# EAGLE library part DSPIC33FJ128MC202-I/MM (library Microchip_By_element14_Batch_1)
16-bit Digital Signal Controllers
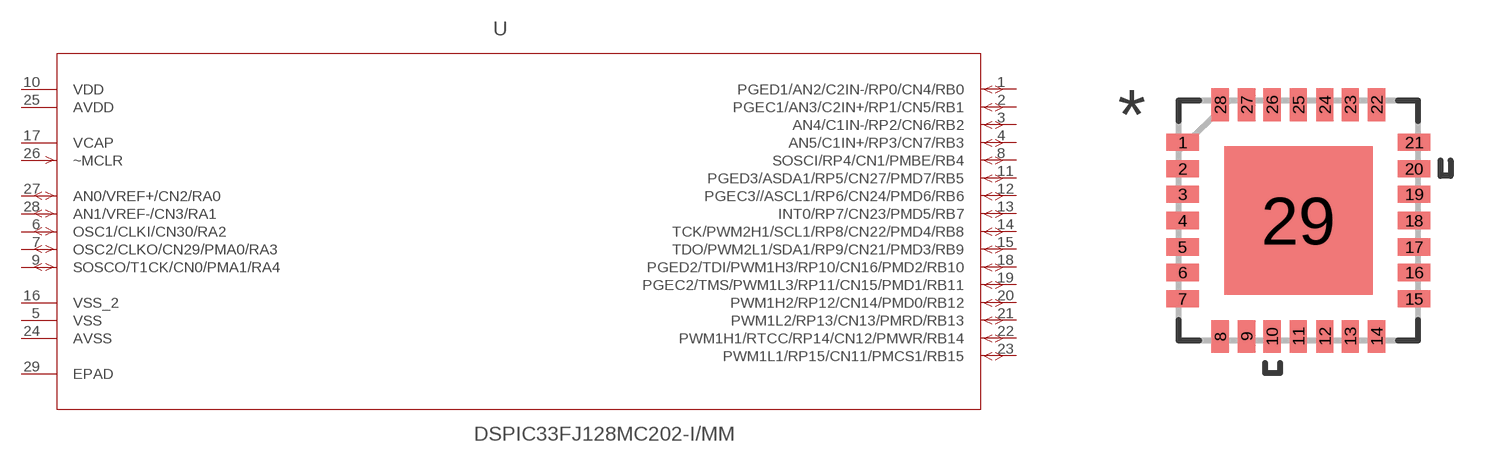
[diagram p352: symbol with the pads of QFN65P600X600X100-28N; footprint QFN65P600X600X100-28N]

Designator prefix -

## DSPIC33FJ128MC202-I/MM (MPN: DSPIC33FJ128Mc202-I/MM; OC_FARNELL: 1576804; OC_NEWARK: 54M4504; PACKAGE: QFN-28; SUPPLIER: Microchip)  [QFN65P600X600X100-28N]
1  PGED1/AN2/C2IN-/RP0/CN4/RB0
2  PGEC1/AN3/C2IN+/RP1/CN5/RB1
3  AN4/C1IN-/RP2/CN6/RB2
4  AN5/C1IN+/RP3/CN7/RB3
5  VSS  pwr
6  OSC1/CLKI/CN30/RA2
7  OSC2/CLKO/CN29/PMA0/RA3
8  SOSCI/RP4/CN1/PMBE/RB4
9  SOSCO/T1CK/CN0/PMA1/RA4
10  VDD  pwr
11  PGED3/ASDA1/RP5/CN27/PMD7/RB5
12  PGEC3//ASCL1/RP6/CN24/PMD6/RB6
13  INT0/RP7/CN23/PMD5/RB7
14  TCK/PWM2H1/SCL1/RP8/CN22/PMD4/RB8
15  TDO/PWM2L1/SDA1/RP9/CN21/PMD3/RB9
16  VSS_2  pwr
17  VCAP  pwr
18  PGED2/TDI/PWM1H3/RP10/CN16/PMD2/RB10
19  PGEC2/TMS/PWM1L3/RP11/CN15/PMD1/RB11
20  PWM1H2/RP12/CN14/PMD0/RB12
21  PWM1L2/RP13/CN13/PMRD/RB13
22  PWM1H1/RTCC/RP14/CN12/PMWR/RB14
23  PWM1L1/RP15/CN11/PMCS1/RB15
24  AVSS  pwr
25  AVDD  pwr
26  ~MCLR  in
27  AN0/VREF+/CN2/RA0
28  AN1/VREF-/CN3/RA1
29  EPAD  pas

## Footprint QFN65P600X600X100-28N (pad centres in mm)
smd 0.813 x 0.432: 1 -2.896,1.956; 2 -2.896,1.295; 3 -2.896,0.66; 4 -2.896,0; 5 -2.896,-0.66; 6 -2.896,-1.295; 7 -2.896,-1.956; 15 2.896,-1.956; 16 2.896,-1.295; 17 2.896,-0.66; 18 2.896,0; 19 2.896,0.66; 20 2.896,1.295; 21 2.896,1.956
smd 0.432 x 0.813: 8 -1.956,-2.896; 9 -1.295,-2.896; 10 -0.66,-2.896; 11 0,-2.896; 12 0.66,-2.896; 13 1.295,-2.896; 14 1.956,-2.896; 22 1.956,2.896; 23 1.295,2.896; 24 0.66,2.896; 25 0,2.896; 26 -0.66,2.896; 27 -1.295,2.896; 28 -1.956,2.896
smd 3.708 x 3.708: 29 0,0